# EAGLE library part 3X18HEADER (library piarmed)
3x18 header @ 2.54mm apart
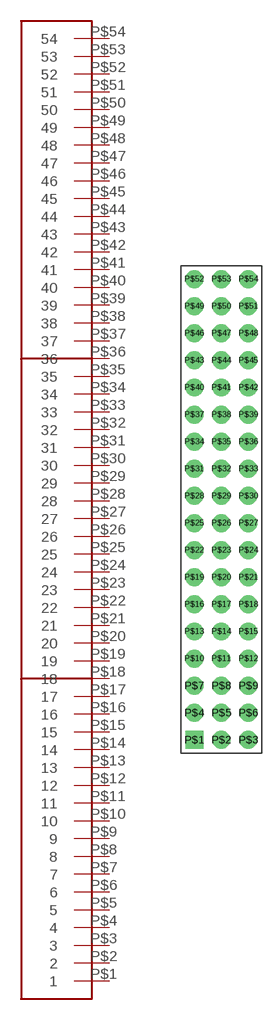
[diagram p0: symbol with the pads of 3X18HEADER; footprint 3X18HEADER]

Designator prefix -

## 3X18HEADER  [3X18HEADER]
P$1  1
P$2  2
P$3  3
P$4  4
P$5  5
P$6  6
P$7  7
P$8  8
P$9  9
P$10  10
P$11  11
P$12  12
P$13  13
P$14  14
P$15  15
P$16  16
P$17  17
P$18  18
P$19  19
P$20  20
P$21  21
P$22  22
P$23  23
P$24  24
P$25  25
P$26  26
P$27  27
P$28  28
P$29  29
P$30  30
P$31  31
P$32  32
P$33  33
P$34  34
P$35  35
P$36  36
P$37  37
P$38  38
P$39  39
P$40  40
P$41  41
P$42  42
P$43  43
P$44  44
P$45  45
P$46  46
P$47  47
P$48  48
P$49  49
P$50  50
P$51  51
P$52  52
P$53  53
P$54  54

## Footprint 3X18HEADER (pad centres in mm)
drill 1.1 pad 1.676 square: P$1 0,0
drill 1.1 pad 1.676: P$2 2.54,0; P$3 5.08,0; P$4 0,2.54; P$5 2.54,2.54; P$6 5.08,2.54; P$7 0,5.08; P$8 2.54,5.08; P$9 5.08,5.08; P$10 0,7.62; P$11 2.54,7.62; P$12 5.08,7.62; P$13 0,10.16; P$14 2.54,10.16; P$15 5.08,10.16; P$16 0,12.7; P$17 2.54,12.7; P$18 5.08,12.7; P$19 0,15.24; P$20 2.54,15.24; P$21 5.08,15.24; P$22 0,17.78; P$23 2.54,17.78; P$24 5.08,17.78; P$25 0,20.32; P$26 2.54,20.32; P$27 5.08,20.32; P$28 0,22.86; P$29 2.54,22.86; P$30 5.08,22.86; P$31 0,25.4; P$32 2.54,25.4; P$33 5.08,25.4; P$34 0,27.94; P$35 2.54,27.94; P$36 5.08,27.94; P$37 0,30.48; P$38 2.54,30.48; P$39 5.08,30.48; P$40 0,33.02; P$41 2.54,33.02; P$42 5.08,33.02; P$43 0,35.56; P$44 2.54,35.56; P$45 5.08,35.56; P$46 0,38.1; P$47 2.54,38.1; P$48 5.08,38.1; P$49 0,40.64; P$50 2.54,40.64; P$51 5.08,40.64; P$52 0,43.18; P$53 2.54,43.18; P$54 5.08,43.18